# Altium footprint library OpenMEA.PcbLib: 3 footprints
Each footprint in its own frame and in the unit in brackets; x right, y up, seen from the top. Pads: shape width x height; smd on the part's side, far side on the other; paste and mask are expansions set on the pad; w line width, h text height; cw(c..) or ccw(c..) is an arc to the next point about the centre after c.
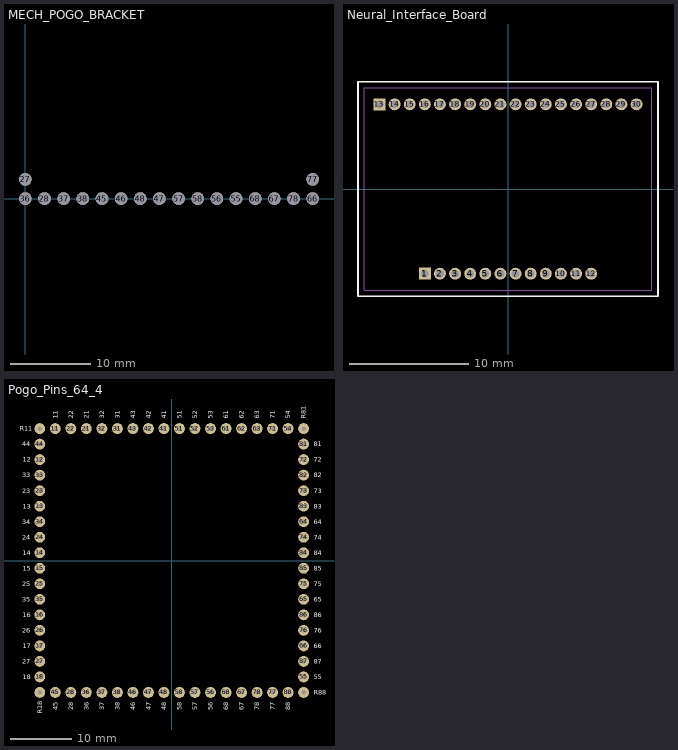
[diagram p0: the footprints below, top view; thin cyan lines are the x and y axes]

## MECH_POGO_BRACKET [mil]
pads (18):
  round 62 hole 62: 27(0,94) 28(94,0) 36(0,0) 37(188,0) 38(282,0) 45(376,0) 46(470,0) 47(658,0) 48(564,0) 55(1034,0) 56(940,0) 57(752,0) 58(846,0) 66(1410,0) 67(1222,0) 68(1128,0) 77(1410,94) 78(1316,0)

## Neural_Interface_Board [mm]
pads (30):
  rect 1x1 hole 0.65: 1(-6.985,-7.112) 13(-10.795,7.112)
  round 1 hole 0.65: 2(-5.715,-7.112) 3(-4.445,-7.112) 4(-3.175,-7.112) 5(-1.905,-7.112) 6(-0.635,-7.112) 7(0.635,-7.112) 8(1.905,-7.112) 9(3.175,-7.112) 10(4.445,-7.112) 11(5.715,-7.112) 12(6.985,-7.112) 14(-9.525,7.112) 15(-8.255,7.112) 16(-6.985,7.112) 17(-5.715,7.112) 18(-4.445,7.112) 19(-3.175,7.112) 20(-1.905,7.112) 21(-0.635,7.112) 22(0.635,7.112) 23(1.905,7.112) 24(3.175,7.112) 25(4.445,7.112) 26(5.715,7.112) 27(6.985,7.112) 28(8.255,7.112) 29(9.525,7.112) 30(10.795,7.112)
Top Overlay:
  lines w0.127: -12.6,-9 12.6,-9 12.6,9 -12.6,9 -12.6,-9
Top Courtyard:
  lines w0.05: -12.065,-8.509 -12.065,8.509 12.065,8.509 12.065,-8.509 -12.065,-8.509
3D body "Neural_Interface.step": height 3.9, standoff 1.4, extent -12.065,-8.509 12.065,8.509

## Pogo_Pins_64_4 [mil]
pads (68):
  round 70 hole 29: 11(-750,850) 12(-850,650) 13(-850,350) 14(-850,50) 15(-850,-50) 16(-850,-350) 17(-850,-550) 18(-850,-750) 21(-550,850) 22(-650,850) 23(-850,450) 24(-850,150) 25(-850,-150) 26(-850,-450) 27(-850,-650) 28(-650,-850) 31(-350,850) 32(-450,850) 33(-850,550) 34(-850,250) 35(-850,-250) 36(-550,-850) 37(-450,-850) 38(-350,-850) 41(-50,850) 42(-150,850) 43(-250,850) 44(-850,750) 45(-750,-850) 46(-250,-850) 47(-150,-850) 48(-50,-850) 51(50,850) 52(150,850) 53(250,850) 54(750,850) 55(850,-750) 56(250,-850) 57(150,-850) 58(50,-850) 61(350,850) 62(450,850) 63(550,850) 64(850,250) 65(850,-250) 66(850,-550) 67(450,-850) 68(350,-850) 71(650,850) 72(850,650) 73(850,450) 74(850,150) 75(850,-150) 76(850,-450) 77(650,-850) 78(550,-850) 81(850,750) 82(850,550) 83(850,350) 84(850,50) 85(850,-50) 86(850,-350) 87(850,-650) 88(750,-850) R11(-850,850) R18(-850,-850) R81(850,850) R88(850,-850)
Top Overlay:
  text "R18" at -835,-989.03 h30
  text "R88" at 914.06,-865 h30
  text "54" at 765,914.06 h30
  text "55" at 914.06,-765 h30
  text "71" at 665,914.06 h30
  text "63" at 565,914.06 h30
  text "62" at 465,914.06 h30
  text "61" at 365,914.06 h30
  text "53" at 265,914.06 h30
  text "52" at 165,914.06 h30
  text "51" at 65,914.06 h30
  text "41" at -35,914.05 h30
  text "42" at -135,914.05 h30
  text "43" at -235,914.05 h30
  text "31" at -335,914.05 h30
  text "32" at -435,914.05 h30
  text "21" at -535,914.05 h30
  text "22" at -635,914.05 h30
  text "11" at -735,914.05 h30
  text "88" at 765,-964.04 h30
  text "77" at 665,-964.04 h30
  text "78" at 565,-964.04 h30
  text "67" at 465,-964.04 h30
  text "68" at 365,-964.04 h30
  text "56" at 265,-964.04 h30
  text "57" at 165,-964.04 h30
  text "58" at 65,-964.04 h30
  text "48" at -35,-964.04 h30
  text "47" at -135,-964.04 h30
  text "46" at -235,-964.04 h30
  text "38" at -335,-964.04 h30
  text "37" at -435,-964.04 h30
  text "36" at -535,-964.04 h30
  text "28" at -635,-964.04 h30
  text "87" at 914.06,-665 h30
  text "66" at 914.06,-565 h30
  text "76" at 914.06,-465 h30
  text "86" at 914.06,-365 h30
  text "65" at 914.06,-265 h30
  text "75" at 914.06,-165 h30
  text "85" at 914.06,-65 h30
  text "84" at 914.06,35 h30
  text "74" at 914.06,135 h30
  text "64" at 914.06,235 h30
  text "83" at 914.06,335 h30
  text "73" at 914.06,435 h30
  text "82" at 914.06,535 h30
  text "72" at 914.06,635 h30
  text "81" at 914.06,735 h30
  text "18" at -959.04,-765 h30
  text "27" at -964.04,-665 h30
  text "17" at -959.04,-565 h30
  text "26" at -964.04,-465 h30
  text "16" at -959.04,-365 h30
  text "35" at -964.04,-265 h30
  text "25" at -964.04,-165 h30
  text "15" at -959.04,-65 h30
  text "14" at -959.04,35 h30
  text "24" at -964.04,135 h30
  text "34" at -964.04,235 h30
  text "13" at -959.04,335 h30
  text "23" at -964.04,435 h30
  text "33" at -964.04,535 h30
  text "12" at -959.04,635 h30
  text "44" at -964.04,735 h30
  text "45" at -735,-964.04 h30
  text "R81" at 865,914.06 h30
  text "R11" at -979.03,835 h30
3D body "mill-max-0914-0-15-20-77-14-11-0.step": height 302.83, standoff -114.17, extent 714.01,814.26 786.01,885.74
3D body "mill-max-0914-0-15-20-77-14-11-0.step": height 302.83, standoff -114.17, extent 814,-785.74 886,-714.26
3D body "mill-max-0914-0-15-20-77-14-11-0.step": height 302.83, standoff -114.17, extent 814,-885.74 886,-814.26
3D body "mill-max-0914-0-15-20-77-14-11-0.step": height 302.83, standoff -114.17, extent -886,-885.74 -814,-814.26
3D body "mill-max-0914-0-15-20-77-14-11-0.step": height 302.83, standoff -114.17, extent -886,-785.75 -814,-714.28
3D body "mill-max-0914-0-15-20-77-14-11-0.step": height 302.83, standoff -114.17, extent -686,-885.74 -614,-814.26
3D body "mill-max-0914-0-15-20-77-14-11-0.step": height 302.83, standoff -114.17, extent -586,-885.74 -514,-814.26
3D body "mill-max-0914-0-15-20-77-14-11-0.step": height 302.83, standoff -114.17, extent -486,-885.74 -414,-814.26
3D body "mill-max-0914-0-15-20-77-14-11-0.step": height 302.83, standoff -114.17, extent -386,-885.74 -314,-814.26
3D body "mill-max-0914-0-15-20-77-14-11-0.step": height 302.83, standoff -114.17, extent -286,-885.74 -214,-814.26
3D body "mill-max-0914-0-15-20-77-14-11-0.step": height 302.83, standoff -114.17, extent -186,-885.74 -114,-814.26
3D body "mill-max-0914-0-15-20-77-14-11-0.step": height 302.83, standoff -114.17, extent -86,-885.74 -14,-814.26
3D body "mill-max-0914-0-15-20-77-14-11-0.step": height 302.83, standoff -114.17, extent 14,-885.74 86,-814.26
3D body "mill-max-0914-0-15-20-77-14-11-0.step": height 302.83, standoff -114.17, extent 114,-885.74 186,-814.26
3D body "mill-max-0914-0-15-20-77-14-11-0.step": height 302.83, standoff -114.17, extent 214,-885.74 286,-814.26
3D body "mill-max-0914-0-15-20-77-14-11-0.step": height 302.83, standoff -114.17, extent 314,-885.74 386,-814.26
3D body "mill-max-0914-0-15-20-77-14-11-0.step": height 302.83, standoff -114.17, extent 414,-885.74 486,-814.26
3D body "mill-max-0914-0-15-20-77-14-11-0.step": height 302.83, standoff -114.17, extent 514,-885.74 586,-814.26
3D body "mill-max-0914-0-15-20-77-14-11-0.step": height 302.83, standoff -114.17, extent 614,-885.74 686,-814.26
3D body "mill-max-0914-0-15-20-77-14-11-0.step": height 302.83, standoff -114.17, extent 714,-885.74 786,-814.26
3D body "mill-max-0914-0-15-20-77-14-11-0.step": height 302.83, standoff -114.17, extent 814,-685.74 886,-614.26
3D body "mill-max-0914-0-15-20-77-14-11-0.step": height 302.83, standoff -114.17, extent 814,-585.74 886,-514.26
3D body "mill-max-0914-0-15-20-77-14-11-0.step": height 302.83, standoff -114.17, extent 814,-485.74 886,-414.26
3D body "mill-max-0914-0-15-20-77-14-11-0.step": height 302.83, standoff -114.17, extent 814,-385.74 886,-314.26
3D body "mill-max-0914-0-15-20-77-14-11-0.step": height 302.83, standoff -114.17, extent -886,-685.51 -814,-614.03
3D body "mill-max-0914-0-15-20-77-14-11-0.step": height 302.83, standoff -114.17, extent -886,-585.52 -814,-514.05
3D body "mill-max-0914-0-15-20-77-14-11-0.step": height 302.83, standoff -114.17, extent -886,-485.54 -814,-414.06
3D body "mill-max-0914-0-15-20-77-14-11-0.step": height 302.83, standoff -114.17, extent -886,-385.55 -814,-314.08
3D body "mill-max-0914-0-15-20-77-14-11-0.step": height 302.83, standoff -114.17, extent -886,-285.57 -814,-214.09
3D body "mill-max-0914-0-15-20-77-14-11-0.step": height 302.83, standoff -114.17, extent -886,-185.58 -814,-114.11
3D body "mill-max-0914-0-15-20-77-14-11-0.step": height 302.83, standoff -114.17, extent -886,-85.6 -814,-14.12
3D body "mill-max-0914-0-15-20-77-14-11-0.step": height 302.83, standoff -114.17, extent -886,14.39 -814,85.86
3D body "mill-max-0914-0-15-20-77-14-11-0.step": height 302.83, standoff -114.17, extent -886,114.37 -814,185.84
3D body "mill-max-0914-0-15-20-77-14-11-0.step": height 302.83, standoff -114.17, extent -886,214.35 -814,285.83
3D body "mill-max-0914-0-15-20-77-14-11-0.step": height 302.83, standoff -114.17, extent -886,314.34 -814,385.81
3D body "mill-max-0914-0-15-20-77-14-11-0.step": height 302.83, standoff -114.17, extent -886,414.32 -814,485.8
3D body "mill-max-0914-0-15-20-77-14-11-0.step": height 302.83, standoff -114.17, extent -886,514.31 -814,585.78
3D body "mill-max-0914-0-15-20-77-14-11-0.step": height 302.83, standoff -114.17, extent -886,614.29 -814,685.77
3D body "mill-max-0914-0-15-20-77-14-11-0.step": height 302.83, standoff -114.17, extent -786.02,814.26 -714.02,885.74
3D body "mill-max-0914-0-15-20-77-14-11-0.step": height 302.83, standoff -114.17, extent -685.77,814.26 -613.77,885.74
3D body "mill-max-0914-0-15-20-77-14-11-0.step": height 302.83, standoff -114.17, extent -585.78,814.26 -513.78,885.74
3D body "mill-max-0914-0-15-20-77-14-11-0.step": height 302.83, standoff -114.17, extent -485.8,814.26 -413.8,885.74
3D body "mill-max-0914-0-15-20-77-14-11-0.step": height 302.83, standoff -114.17, extent -385.81,814.26 -313.81,885.74
3D body "mill-max-0914-0-15-20-77-14-11-0.step": height 302.83, standoff -114.17, extent -285.83,814.26 -213.83,885.74
3D body "mill-max-0914-0-15-20-77-14-11-0.step": height 302.83, standoff -114.17, extent -185.85,814.26 -113.85,885.74
3D body "mill-max-0914-0-15-20-77-14-11-0.step": height 302.83, standoff -114.17, extent -85.86,814.26 -13.86,885.74
3D body "mill-max-0914-0-15-20-77-14-11-0.step": height 302.83, standoff -114.17, extent 14.12,814.26 86.12,885.74
3D body "mill-max-0914-0-15-20-77-14-11-0.step": height 302.83, standoff -114.17, extent 114.11,814.26 186.11,885.74
3D body "mill-max-0914-0-15-20-77-14-11-0.step": height 302.83, standoff -114.17, extent 214.09,814.26 286.09,885.74
3D body "mill-max-0914-0-15-20-77-14-11-0.step": height 302.83, standoff -114.17, extent 314.08,814.26 386.08,885.74
3D body "mill-max-0914-0-15-20-77-14-11-0.step": height 302.83, standoff -114.17, extent 414.06,814.26 486.06,885.74
3D body "mill-max-0914-0-15-20-77-14-11-0.step": height 302.83, standoff -114.17, extent 514.05,814.26 586.05,885.74
3D body "mill-max-0914-0-15-20-77-14-11-0.step": height 302.83, standoff -114.17, extent 614.03,814.26 686.03,885.74
3D body "mill-max-0914-0-15-20-77-14-11-0.step": height 302.83, standoff -114.17, extent 814,714.26 886,785.74
3D body "mill-max-0914-0-15-20-77-14-11-0.step": height 302.83, standoff -114.17, extent 814,614.52 886,686
3D body "mill-max-0914-0-15-20-77-14-11-0.step": height 302.83, standoff -114.17, extent 814,514.52 886,586
3D body "mill-max-0914-0-15-20-77-14-11-0.step": height 302.83, standoff -114.17, extent 814,414.52 886,486
3D body "mill-max-0914-0-15-20-77-14-11-0.step": height 302.83, standoff -114.17, extent 814,314.52 886,386
3D body "mill-max-0914-0-15-20-77-14-11-0.step": height 302.83, standoff -114.17, extent 814,214.53 886,286
3D body "mill-max-0914-0-15-20-77-14-11-0.step": height 302.83, standoff -114.17, extent 814,114.53 886,186
3D body "mill-max-0914-0-15-20-77-14-11-0.step": height 302.83, standoff -114.17, extent 814,14.53 886,86
3D body "mill-max-0914-0-15-20-77-14-11-0.step": height 302.83, standoff -114.17, extent 814,-85.47 886,-14
3D body "mill-max-0914-0-15-20-77-14-11-0.step": height 302.83, standoff -114.17, extent 814,-185.47 886,-114
3D body "mill-max-0914-0-15-20-77-14-11-0.step": height 302.83, standoff -114.17, extent 814,-285.48 886,-214
3D body "mill-max-0914-0-15-20-77-14-11-0.step": height 302.83, standoff -114.17, extent -886,714.28 -814,785.75
3D body "mill-max-0914-0-15-20-77-14-11-0.step": height 302.83, standoff -114.17, extent -786,-885.74 -714,-814.26
3D body "mill-max-0914-0-15-20-77-14-11-0.step": height 302.83, standoff -114.17, extent 814,814.26 886,885.74
3D body "mill-max-0914-0-15-20-77-14-11-0.step": height 302.83, standoff -114.17, extent -886,814.26 -814,885.74